# Altium footprint library MAX-8-SO-EP.PcbLib: 1 footprints
Each footprint in its own frame and in the unit in brackets; x right, y up, seen from the top. Pads: shape width x height; smd on the part's side, far side on the other; paste and mask are expansions set on the pad; w line width, h text height; cw(c..) or ccw(c..) is an arc to the next point about the centre after c.
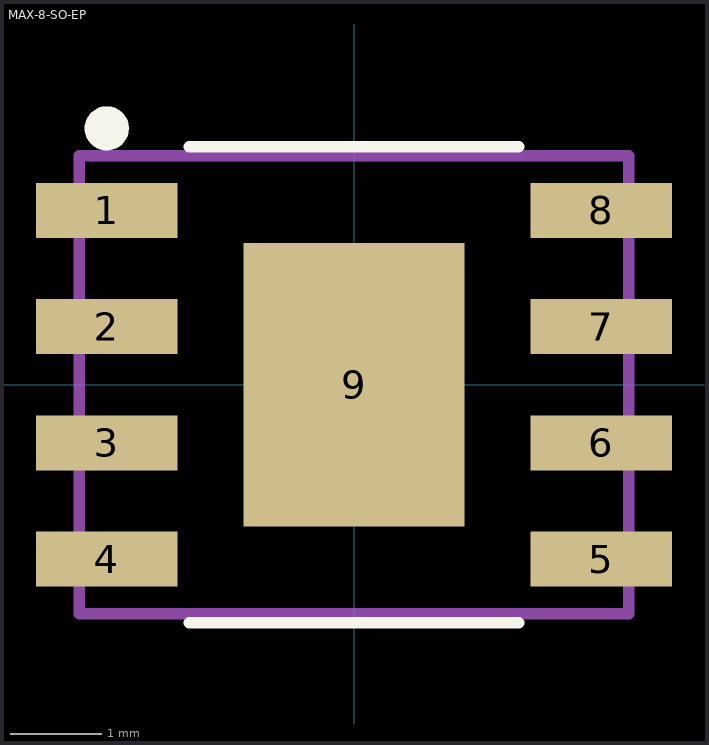
[diagram p0: the footprint, top view; thin cyan lines are the x and y axes]

## MAX-8-SO-EP [mm]
height 1.75
pads (9):
  rect 1.55x0.6 smd mask+0.051: 1(-2.7,1.905) 2(-2.7,0.635) 3(-2.7,-0.635) 4(-2.7,-1.905) 5(2.7,-1.905) 6(2.7,-0.635) 7(2.7,0.635) 8(2.7,1.905)
  rect 2.413x3.099 smd mask+0.051: 9(0,0)
Top Overlay:
  circle w0.254: c-2.7,2.8 r0.114
  lines w0.127: -1.8,-2.6 1.8,-2.6 ; -1.8,2.6 1.8,2.6
Mechanical 13 (Mech13):
  lines w0.127: -3,-2.5 3,-2.5 3,2.5 -3,2.5 -3,-2.5
Mechanical 15:
  lines w0.127: -0.5,0 0,0 ; 0,-0.5 0,0 ; 0,0.5 0,0 ; 0.5,0 0,0
3D body "TI-8-SOIC-5x4.STEP": height 1.75, standoff 0, extent -3,-2.45 3,2.45